# Altium integrated library WE-TPC_4818.IntLib: 1 symbol
Pins are listed as number, name and electrical type; pins without a type are passive.

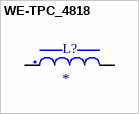
[diagram p0: symbol WE-TPC_4818]

## WE-TPC_4818
designator L?
MF: {'manufacturer': u'W\xfcrth Elektronik'}; MP: 744042003; Package: None; Price: None; Value: *; Availability: Unavailable
footprint WE-TPC_4818
pins: 1, 2